# EAGLE library part TL026 (library Radio)
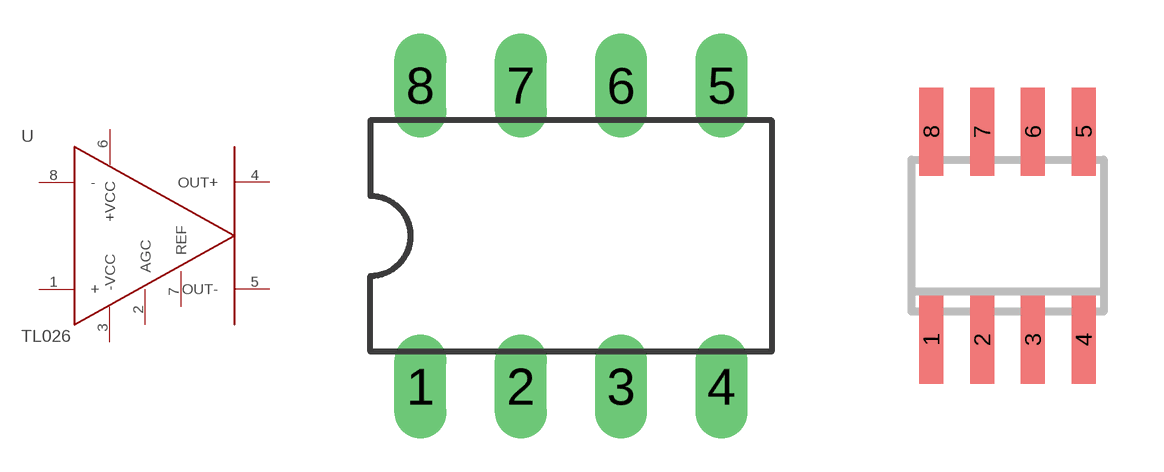
[diagram p3: symbol with the pads of DIL08; footprints DIL08, SO08]

Designator prefix U

## TL026  [DIL08]
1  +  in
2  AGC  in
3  -VCC  pwr
4  OUT+  out
5  OUT-  out
6  +VCC  pwr
7  REF  out
8  -  in

## TL026X  [SO08]
Pads as for DIL08

## Footprint DIL08 (pad centres in mm)
drill 0.813 pad 1.27 long: 1 -2.54,-3.81; 2 0,-3.81; 3 2.54,-3.81; 4 5.08,-3.81; 5 5.08,3.81; 6 2.54,3.81; 7 0,3.81; 8 -2.54,3.81

## Footprint SO08 (pad centres in mm)
smd 0.6 x 2.2: 1 -1.905,-2.6; 2 -0.635,-2.6; 3 0.635,-2.6; 4 1.905,-2.6; 5 1.905,2.6; 6 0.635,2.6; 7 -0.635,2.6; 8 -1.905,2.6